# Altium schematic symbol library 1EPINSKER.SchLib: 10 symbols
Pins are listed as number, name and electrical type; pins without a type are passive.

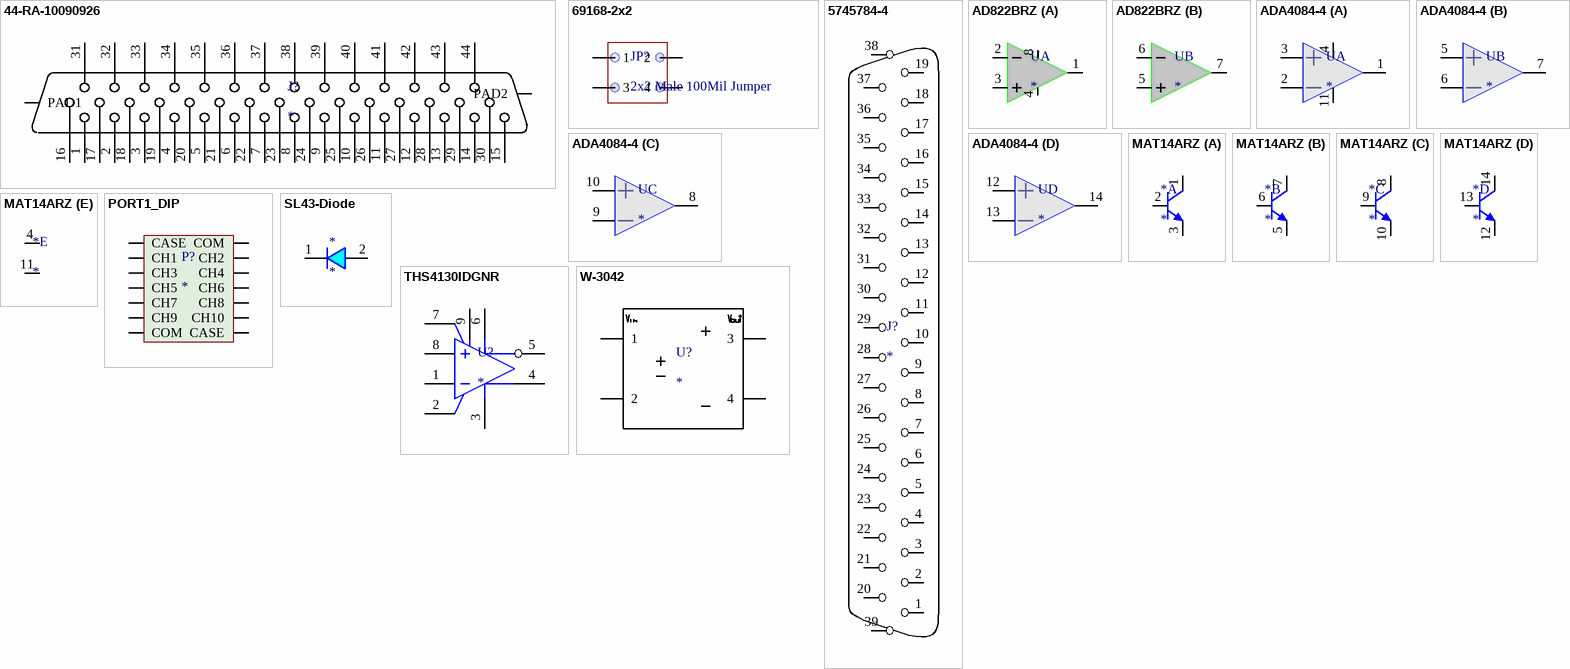
[diagram p0: symbols 44-RA-10090926 to W-3042]

## 44-RA-10090926
designator J?
footprint 44-RA-10090926
pins: 1, 2, 3, 4, 5, 6, 7, 8, 9, 10, 11, 12, 13, 14, 15, 16, 17, 18, 19, 20, 21, 22, 23, 24, 25, 26, 27, 28, 29, 30, 31, 32, 33, 34, 35, 36, 37, 38, 39, 40, 41, 42, 43, 44, 45 PAD1, 46 PAD2

## 69168-2x2
designator JP?, comment 2x2 Male 100Mil Jumper
footprint 69168-2x2
pins: 1, 2, 3, 4

## 5745784-4
designator J?
footprint 5745784-4
pins: 1, 2, 3, 4, 5, 6, 7, 8, 9, 10, 11, 12, 13, 14, 15, 16, 17, 18, 19, 20, 21, 22, 23, 24, 25, 26, 27, 28, 29, 30, 31, 32, 33, 34, 35, 36, 37, 38, 39

## AD822BRZ
designator U
footprint SOIC127P600X175-8N-New (SOIC, 8-Leads, Body 4.90x3.90mm, Pitch 1.27mm, IPC Medium Density)
part A pins: 1, 2, 3, 4, 8 (power)
part B pins: 5, 6, 7

## ADA4084-4
designator U
footprint TSOP65P640X120-14N QUAD OP AMP (TSOP, 14-Leads, Body 5.00x4.40mm, Pitch 0.65mm, IPC Medium Density)
part A pins: 1, 2, 3, 4 (power), 11
part B pins: 5, 6, 7
part C pins: 8, 9, 10
part D pins: 12, 13, 14

## MAT14ARZ
designator *
footprint SOIC127P600X175-14N (SOIC, 14-Leads, Body 8.65x3.90mm, Pitch 1.27mm, IPC Medium Density)
part A pins: 1 C, 2 B, 3 E
part B pins: 5 E, 6 B, 7 C
part C pins: 8 C, 9 B, 10 E
part D pins: 12 E, 13 B, 14 C
part E pins: 4 SUB, 11 SUB

## PORT1_DIP
designator P?
footprint PORT1_DIP
pins: 0 CASE, 1 COM, 2 CH1, 3 CH2, 4 CH3, 5 CH4, 6 CH5, 7 CH6, 8 CH7, 9 CH8, 10 CH9, 11 CH10, 12 COM, 13 CASE

## SL43-Diode
designator *
footprint SL43-M3/57T (Molded Diode, 2-Leads, Body 6.85x5.90mm, IPC Medium Density)
pins: 1, 2

## THS4130IDGNR
designator U?
footprint THS4130IDGNR
pins: 1, 2, 3, 4, 5, 6, 7, 8, 9

## W-3042
designator U?
footprint W-3042
pins: 1, 2, 3, 4